# Altium schematic symbol library SnapEDAsch.SchLib: 1 symbol
Pins are listed as number, name and electrical type; pins without a type are passive.

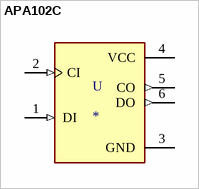
[diagram p0: symbol APA102C]

## APA102C
designator U
Addressable Lighting - 1 LED Discrete Serial Red, Green, Blue _RGB_ 5.00mm L x 5.00mm W; MF: Shiji Lighting; MP: APA102C; Package: SMD-6 Shiji Lightning; Value: *; Availability: Unavailable; SnapEDA_Link: https://www.snapeda.com/parts/APA102C/Shiji%20Lighting/view-part/231897/?ref=snap; Price: None
footprint SON160P500X500X140-6N
pins: 1 DI (in), 2 CI (in), 3 GND (power), 4 VCC (power), 5 CO (out), 6 DO (out)